# Altium integrated library Diodes Incorporated-LDO Regulator.IntLib: 6 symbols
Pins are listed as number, name and electrical type; pins without a type are passive.

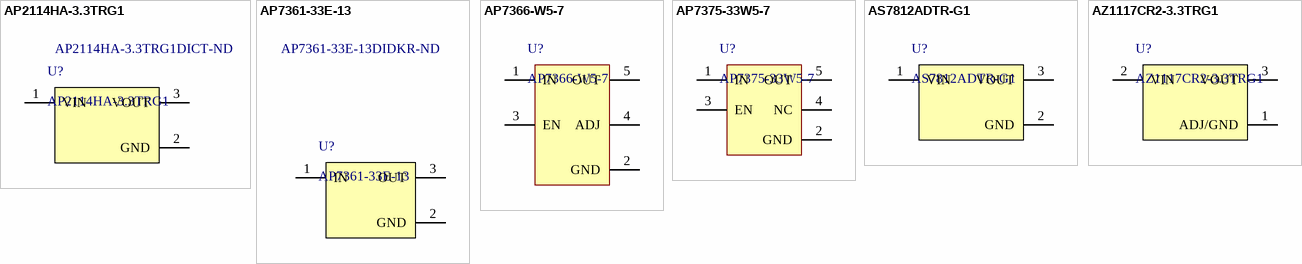
[diagram p0: symbols AP2114HA-3.3TRG1 to AZ1117CR2-3.3TRG1]

## AP2114HA-3.3TRG1
designator U?  Supplier Part Number 1: AP2114HA-3.3TRG1DICT-ND
IC REG LDO 3.3V 1A SOT223; Manufacturer: Diodes; Dropout Voltage: 450mV; Number of Regulators: 1; Polarity: Positive; Quiescent Current: 90uA; Accuracy: 1.5%; Min Input Voltage: 2.5V; Max Input Voltage: 6V; Output Type: Fixed; Supplier 1: Digi-Key; Manufacturer Part Number: AP2114HA-3.3TRG1; RoHS: Yes; Category: Voltage Regulators - Linear; Stock 1: 33445; Pricing 1: 1=0,39000, 10=0,31700, 25=0,29000, 100=0,21570, 250=0,19552, 500=0,16180, 1000=0,12135 (USD); Mount: Surface Mount; Case/Package: TO-261-4; Number of Pins: 3; Contact Plating: Tin; Min Operating Temperature: -40°C; Max Operating Temperature: 85°C; Packaging: Tape and Reel; Package Quantity: 4000; Output Voltage: 3.3V; Output Current: 1A; Max Output Current: 1A; Number of Outputs: 1; RoHS Compliant: Yes; ComponentLink1URL: https://datasheet.ciiva.com/29568/ap2114-29568886.pdf?src-supplier=Digi-Key; ComponentLink1Description: https://datasheet.ciiva.com/29568/ap2114-29568886.pdf?src-supplier=Digi-Key
footprint SOT230P700X165-4N (SOT223, 4-Leads, Body 6,50x7,00mm (avg), Pitch 2,30mm, IPC Medium Density)
pins: 1 VIN (power) "Input supply", 2 GND (power) "Ground", 3 VOUT (power) "Output of the regulator, any output capacitor >= 0.47 uF can be used for stability."

## AP7361-33E-13
designator U?  Supplier Part Number 1: AP7361-33E-13DIDKR-ND
AP7361 Series 3.3 V 1 A Low SMT Dropout Fixed-Mode Regulator - SOT-223; Manufacturer: Diodes; Number of Outputs: 1; Min Input Voltage: 2.2V; Max Input Voltage: 6V; Max Output Current: 1A; Output Voltage: 3.3V; Max Power Dissipation: 1.1W; Dropout Voltage: 500mV; Min Current Limit: 1.1A; Polarity: Positive; Quiescent Current: 70uA; Power Dissipation: 1.1kW; Accuracy: 1%; Power Supply Rejection Ratio (PSRR): 65dB; Reference Voltage: 800mV; Output Type: Fixed; Supplier 1: Digi-Key; Manufacturer Part Number: AP7361-33E-13; RoHS: Yes; Category: Voltage Regulators - Linear; Stock 1: 69291; Pricing 1: 1=0,54000, 10=0,43400, 25=0,39760, 100=0,29580, 250=0,26804, 500=0,22184, 1000=0,16638 (USD); Mount: Surface Mount; Case/Package: SOT-223; Number of Pins: 4; Weight: 0.000282oz; Contact Plating: Tin,Matte; Min Operating Temperature: -40°C; Max Operating Temperature: 85°C; Package Quantity: 1; Packaging: Tape and Reel; Output Current: 1A; Number of Regulators: 1; Series: -; Radiation Hardening: No; REACH SVHC: No SVHC; Lead Free: Lead Free; RoHS Compliant: Yes; ComponentLink1URL: https://datasheet.ciiva.com/26926/getdatasheetpartid-670786-26926141.pdf?src-supplier=Verical; ComponentLink1Description: https://datasheet.ciiva.com/26926/getdatasheetpartid-670786-26926141.pdf?src-supplier=Verical; ComponentLink2URL: https://datasheet.ciiva.com/25651/ap7361-25651049.pdf?src-supplier=Digi-Key; ComponentLink2Description: https://datasheet.ciiva.com/25651/ap7361-25651049.pdf?src-supplier=Digi-Key; ComponentLink3URL: https://datasheet.ciiva.com/29568/ap7361-29568378.pdf?src-supplier=Digi-Key; ComponentLink3Description: https://datasheet.ciiva.com/29568/ap7361-29568378.pdf?src-supplier=Digi-Key; ComponentLink4URL: https://datasheet.ciiva.com/29568/ap7361-29568379.pdf?src-supplier=Digi-Key; ComponentLink4Description: https://datasheet.ciiva.com/29568/ap7361-29568379.pdf?src-supplier=Digi-Key
footprint SOT230P700X165-4N (SOT223, 4-Leads, Body 6,50x7,00mm (avg), Pitch 2,30mm, IPC Medium Density)
pins: 1 IN (power) "Input supply", 2 GND (power) "Ground", 3 OUT (power) "Output of the regulator, any output capacitor >= 0.47 uF can be used for stability."

## AP7366-W5-7
designator U?
Ldo, 0.8V-5V, 0.6A, -40 To 85Deg C Rohs Compliant: Yes |Diodes Inc. AP7366-W5-7; Max Junction Temperature (Tj): 150°C; Number of Channels: 1; Supplier: DigiKey; Supplier Part Number: AP7366-W5-7DICT-ND; Manufacturer: Diodes Inc.; Manufacturer Part Number: AP7366-W5-7; RoHS: Compliant; Category: LDO Voltage Regulators; Stock: 22865; Pricing: 1=0,19, 10=0,127, 25=0,1116, 100=0,0949, 250=0,08692, 500=0,08216, 1000=0,07822 (USD); China RoHS: Compliant; Height - Seated (Max): 1.4mm; Length: 3mm; Lifecycle Status: NRND; Max Operating Temperature: 85°C; Min Operating Temperature: -40°C; Number of Circuits: 1; Number of Outputs: 1; Number of Terminals: 5; REACH SVHC: Yes; Schedule B: 8542390000, 8542390000|8542390000|8542390000|8542390000|8542390000; Terminal Pitch: 950µm; Width: 1.6mm; ComponentLink1URL: https://datasheet.octopart.com:443/AP7366-W5-7-Diodes-Inc.-datasheet-166817000.pdf?src-supplier=IHS; ComponentLink1Description: https://datasheet.octopart.com:443/AP7366-W5-7-Diodes-Inc.-datasheet-166817000.pdf?src-supplier=IHS; ComponentLink2URL: https://datasheet.octopart.com:443/AP7366-W5-7-Diodes-Inc.-datasheet-147761854.pdf?src-supplier=Future+Electronics; ComponentLink2Description: https://datasheet.octopart.com:443/AP7366-W5-7-Diodes-Inc.-datasheet-147761854.pdf?src-supplier=Future+Electronics
footprint SOT95P280X145-5N (SOT23, 5-Leads, Body 2,90x2,80mm, Pitch 0,95mm, IPC Medium Density)
pins: 1 IN, 2 GND, 3 EN, 4 ADJ, 5 OUT

## AP7375-33W5-7
designator U?
Fixed Positive LDO Regulator, 3.3V, 0.36V Dropout, PDSO5; Manufacturer: Diodes Inc.; Max Supply Voltage: 45V; Max Junction Temperature (Tj): 125°C; Min Input Voltage: 3.8V; Number of Channels: 1; Voltage Tolerance: 2%; Supplier: DigiKey; Supplier Part Number: 31-AP7375-33W5-7CT-ND; Manufacturer Part Number: AP7375-33W5-7; RoHS: Compliant; Category: LDO Voltage Regulators; Stock: 18569; Pricing: 1=0,29, 10=0,196, 25=0,1736, 100=0,1492, 250=0,13752, 500=0,13046, 1000=0,12464 (USD); China RoHS: Compliant; Height - Seated (Max): 1.4mm; Length: 3mm; Lifecycle Status: Production; Max Operating Temperature: 85°C; Min Operating Temperature: -40°C; Number of Circuits: 1; Number of Outputs: 1; Number of Terminals: 5; Output Voltage: 3.3V; REACH SVHC: Yes; Terminal Pitch: 950µm; Width: 1.6mm; ComponentLink1URL: https://datasheet.octopart.com:443/AP7375-33W5-7-Diodes-Inc.-datasheet-180550755.pdf?src-supplier=IHS; ComponentLink1Description: https://datasheet.octopart.com:443/AP7375-33W5-7-Diodes-Inc.-datasheet-180550755.pdf?src-supplier=IHS; ComponentLink2URL: https://datasheet.octopart.com:443/AP7375-33W5-7-Diodes-Inc.-datasheet-166558626.pdf?src-supplier=Future+Electronics; ComponentLink2Description: https://datasheet.octopart.com:443/AP7375-33W5-7-Diodes-Inc.-datasheet-166558626.pdf?src-supplier=Future+Electronics
footprint SOT95P280X145-5N (SOT23, 5-Leads, Body 2,90x2,80mm, Pitch 0,95mm, IPC Medium Density)
pins: 1 IN, 2 GND, 3 EN, 4 NC, 5 OUT

## AS7812ADTR-G1
designator U?
IC REG LDO 12V 1A TO252-2; Manufacturer: Diodes; Dropout Voltage: 2V; Number of Outputs: 1; Max Supply Voltage: 32V; Polarity: Positive; Quiescent Current: 6mA; Accuracy: 4%; Max Output current: 2.2A; Output Type: Fixed; Supplier: Digikey; Supplier Part Number: AS7812ADTR-G1DICT-ND; Manufacturer Part Number: AS7812ADTR-G1; RoHS: Yes; Category: Voltage Regulators - Linear; Stock: 4736; Pricing: 1=0,35, 10=0,246, 25=0,2184, 100=0,1885, 250=0,1742, 500=0,16556, 1000=0,15845 (USD); Mounting Technology: Surface Mount; Case/Package: TO-252-3; Pins: 3; Min Operating Temperature: -40°C; Max Operating Temperature: 125°C; Package Quantity: 2500; Packaging: Tape and Reel; Output Voltage: 12V; Output Current: 1A; Number of Regulators: 1; Series: -; RoHS Compliant: Yes; ComponentLink1URL: https://datasheet.ciiva.com/29568/as78xxa-29568776.pdf?src-supplier=Digikey; ComponentLink1Description: https://datasheet.ciiva.com/29568/as78xxa-29568776.pdf?src-supplier=Digikey; ComponentLink2URL: https://datasheet.ciiva.com/30016/as78xxa-30016686.pdf?src-supplier=Avnet; ComponentLink2Description: https://datasheet.ciiva.com/30016/as78xxa-30016686.pdf?src-supplier=Avnet
footprint TO-252-3
pins: 1 VIN (power) "Input supply", 2 GND (power) "Ground", 3 VOUT (power) "Output of the regulator, any output capacitor >= 0.47 uF can be used for stability."

## AZ1117CR2-3.3TRG1
designator U?
LDO Regulator Pos 3.3V 0.8A 4-Pin(3+Tab) SOT-89 T/R; Manufacturer: Diodes; Output Current: 1A; Number of Regulators: 1; Output Type: Fixed; Output Configuration: Positive; Max Supply Voltage: 15V; Quiescent Current: 6mA; Power Supply Rejection Ratio (PSRR): 70dB; Supplier: Digikey; Supplier Part Number: 31-AZ1117CR2-3.3TRG1CT-ND; Manufacturer Part Number: AZ1117CR2-3.3TRG1; RoHS: Yes; Category: Voltage Regulators - Linear; Stock: 7000; Pricing: 1=0,48, 10=0,292, 25=0,2424, 100=0,1851, 250=0,15676, 500=0,13934, 1000=0,12477, 2000=0,11261, 3000=0,10646, 5000=0,09958, 7000=0,09554, 10000=0,09163, 25000=0,08313, 50000=0,07794, 100000=0,07364 (USD); Mounting Technology: Surface Mount; Case/Package: TO-243AA; Min Operating Temperature: -20°C; Max Operating Temperature: 125°C; Packaging: Tape and Reel; Series: AZ1117C; Min Output Voltage: 3.3V; Number of Channels: 1; RoHS Compliant: Yes; ComponentLink1URL: https://www.diodes.com/assets/Datasheets/AZ1117C.pdf?src-supplier=Digikey; ComponentLink1Description: https://www.diodes.com/assets/Datasheets/AZ1117C.pdf?src-supplier=Digikey; ComponentLink2URL: https://datasheet.octopart.com/AZ1117CR2-3.3TRG1-Diodes-Inc.-datasheet-141402638.pdf?src-supplier=Farnell; ComponentLink2Description: https://datasheet.octopart.com/AZ1117CR2-3.3TRG1-Diodes-Inc.-datasheet-141402638.pdf?src-supplier=Farnell; ComponentLink3URL: https://datasheet.octopart.com/AZ1117CR2-3.3TRG1-Diodes-Inc.-datasheet-141402638.pdf?src-supplier=Newark; ComponentLink3Description: https://datasheet.octopart.com/AZ1117CR2-3.3TRG1-Diodes-Inc.-datasheet-141402638.pdf?src-supplier=Newark; ComponentLink4URL: https://datasheet.octopart.com/AZ1117CR2-3.3TRG1-Diodes-Inc.-datasheet-42223713.pdf?src-supplier=SHENGYU+ELECTRONICS; ComponentLink4Description: https://datasheet.octopart.com/AZ1117CR2-3.3TRG1-Diodes-Inc.-datasheet-42223713.pdf?src-supplier=SHENGYU+ELECTRONICS
footprint SOT89-150P410X160-3N (SOT89, 3-Leads, Body 4,50x2,45mm, Pitch 1,50mm, Lead Span 4,1mm, IPC Medium Density)
pins: 1 ADJ/GND (power) "Ground", 2 VIN (power) "Input supply", 3 VOUT (power) "Output of the regulator, any output capacitor >= 0.47 uF can be used for stability."